# Altium footprint library OKmePCBLibrary.PcbLib: 194 footprints (part 1 of 13)
Each footprint in its own frame and in the unit in brackets; x right, y up, seen from the top. Pads: shape width x height; smd on the part's side, far side on the other; paste and mask are expansions set on the pad; w line width, h text height; cw(c..) or ccw(c..) is an arc to the next point about the centre after c.
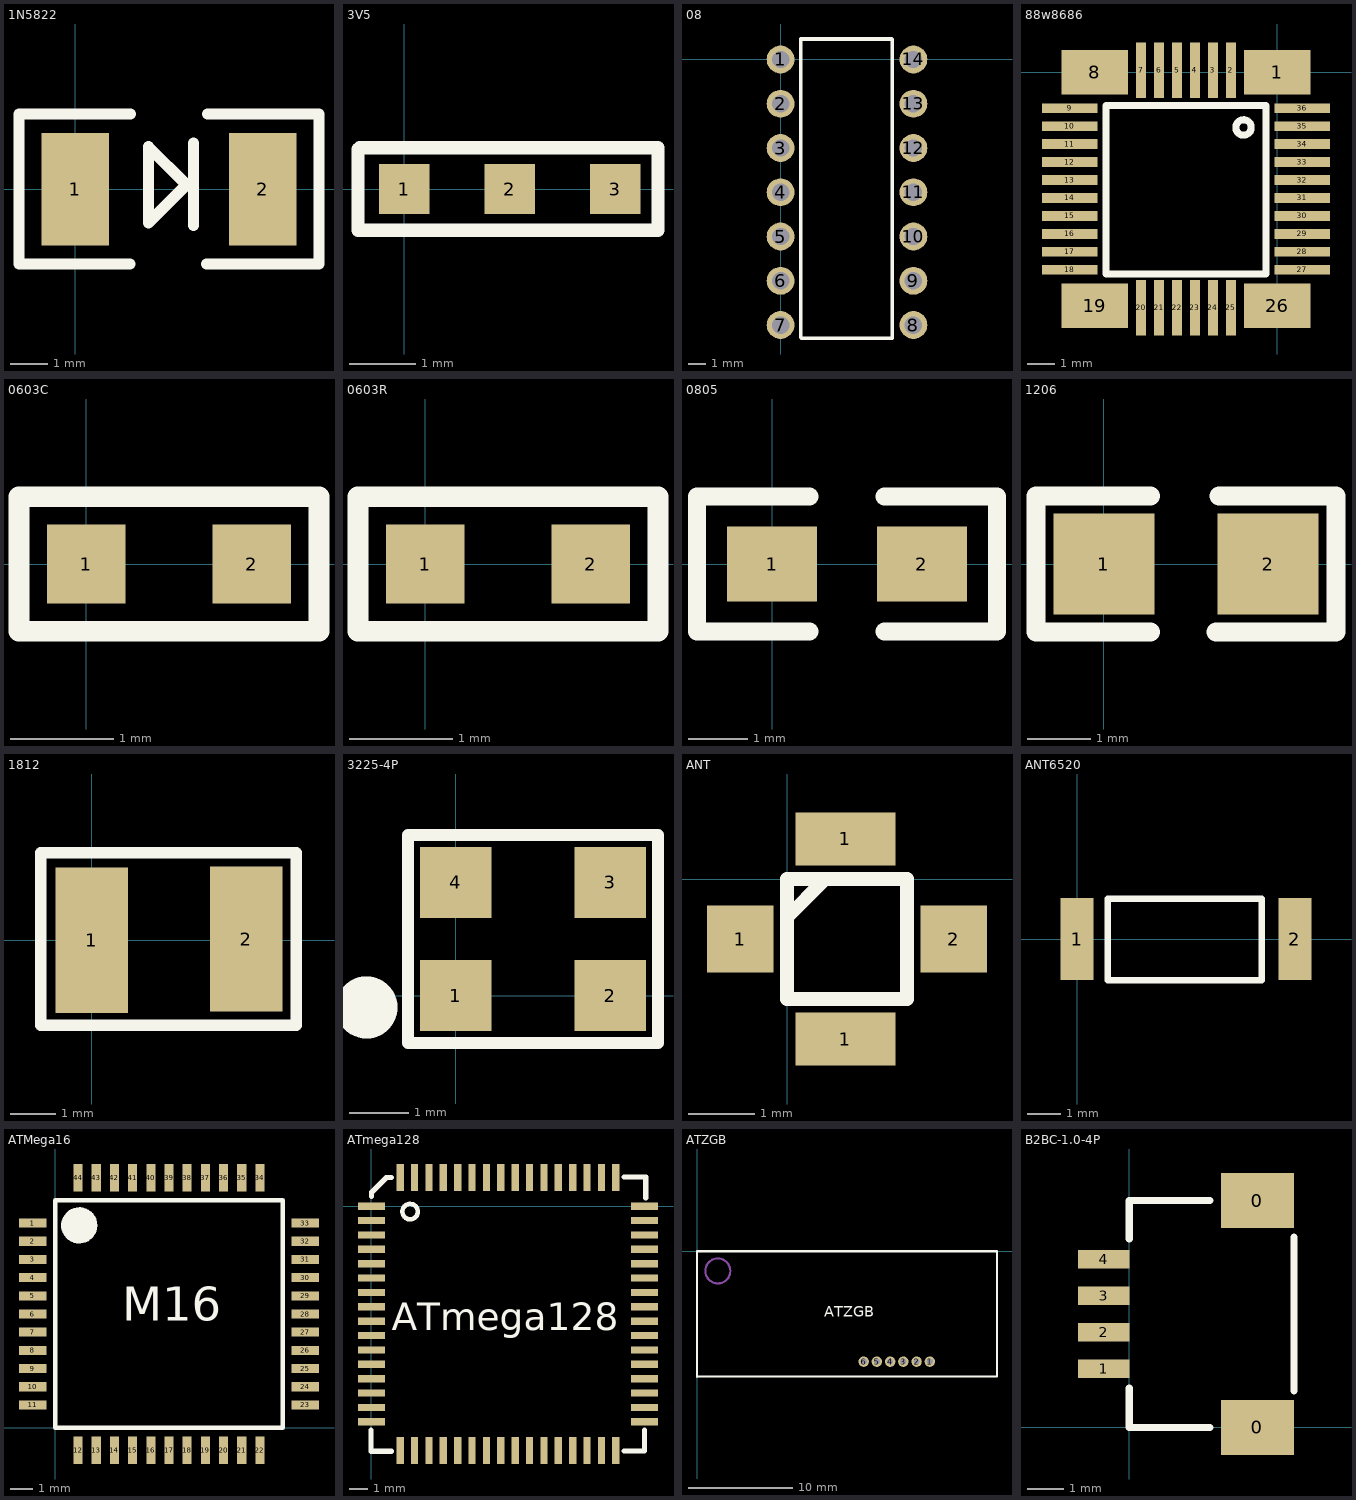
[diagram p0: the footprints below, top view; thin cyan lines are the x and y axes]

## 1N5822 [mm]
pads (2):
  rect 1.8x3 smd: 1(0,0) 2(5,0)
Top Overlay:
  lines w0.254: -1.5,2 -0.5,2
  lines w0.3: -0.5,2 1.475,2 ; 0.488,2 -1.5,2 -1.5,-2 -0.5,-2 1.45,-2 ; 3.15,-0.975 3.15,1.225 ; 3.5,-2 5.525,-2 6.5,-2 6.5,2 5.5,2 3.525,2 ; 1.95,-0.9 2.963,0.113 1.95,1.125 1.95,-0.9

## 3V5 [mil]
pads (3):
  rect 30x30 smd: 1(0,0) 2(63,0) 3(126,0)
Top Overlay:
  lines w8: -27.56,-24.61 -27.56,23.62 -26.57,24.61 -19.68,24.61 151.57,24.61 151.57,-24.61 -27.56,-24.61

## 08 [mm]
pads (14):
  round 1.6 hole 1: 1(0,0) 2(0,-2.54) 3(0,-5.08) 4(0,-7.62) 5(0,-10.16) 6(0,-12.7) 7(0,-15.24) 8(7.62,-15.24) 9(7.62,-12.7) 10(7.62,-10.16) 11(7.62,-7.62) 12(7.62,-5.08) 13(7.62,-2.54) 14(7.62,0)
Top Overlay:
  lines w0.203: 1.15,-15.95 1.15,1.175 6.375,1.175 6.4,1.15 6.4,-16 1.2,-16 1.15,-15.95

## 88w8686 [mm]
pads (36):
  rect 2.4x1.6 smd: 1(0,0) 8(-6.6,0) 19(-6.6,-8.45) 26(0,-8.45)
  rect 0.35x2 smd: 2(-1.675,0.075) 3(-2.325,0.075) 4(-2.975,0.075) 5(-3.625,0.075) 6(-4.275,0.075) 7(-4.925,0.075) 20(-4.925,-8.525) 21(-4.275,-8.525) 22(-3.625,-8.525) 23(-2.975,-8.525) 24(-2.325,-8.525) 25(-1.675,-8.525)
  rect 2x0.35 smd: 9(-7.5,-1.3) 10(-7.5,-1.95) 11(-7.5,-2.6) 12(-7.5,-3.25) 13(-7.5,-3.9) 14(-7.5,-4.55) 15(-7.5,-5.2) 16(-7.5,-5.85) 17(-7.5,-6.5) 18(-7.5,-7.15) 27(0.9,-7.15) 28(0.9,-6.5) 29(0.9,-5.85) 30(0.9,-5.2) 31(0.9,-4.55) 32(0.9,-3.9) 33(0.9,-3.25) 34(0.9,-2.6) 35(0.9,-1.95) 36(0.9,-1.3)
Top Overlay:
  circle w0.254: c-1.22,-2 r0.28
  lines w0.254: -6.2,-7.3 -0.4,-7.3 -0.4,-1.2 -6.2,-1.2 -6.2,-7.3

## 0603C [mil]
pads (2):
  rect 30x30 smd: 1(0,0) 2(62.99,0)
Top Overlay:
  lines w7.87: -25.59,-25.59 -25.59,25.59 88.58,25.59 88.58,-25.59 -25.59,-25.59

## 0603R [mil]
pads (2):
  rect 30x30 smd: 1(0,0) 2(62.99,0)
Top Overlay:
  lines w7.87: -25.59,-25.59 88.58,-25.59 88.58,25.59 -25.59,25.59 -25.59,-25.59

## 0805 [mil]
pads (2):
  rect 60x50 smd: 1(0,0) 2(100,0)
Top Overlay:
  lines w12: 25,-45 -50,-45 -50,45 25,45 ; 75,-45 150,-45 150,45 75,45

## 1206 [mm]
pads (2):
  rect 1.6x1.6 smd: 1(0,0) 2(2.6,0)
Top Overlay:
  lines w0.305: 0.735,-1.075 -1.075,-1.075 -1.075,1.075 0.735,1.075 ; 1.775,-1.075 3.675,-1.075 3.675,1.075 1.825,1.075

## 1812 [mm]
pads (2):
  rect 1.6x3.2 smd: 1(0,0) 2(3.4,0.025)
Top Overlay:
  lines w0.25: -1.125,-1.875 4.5,-1.875 4.5,1.925 -1.125,1.925 -1.125,-1.875

## 3225-4P [mm]
pads (4):
  rect 1.2x1.2 smd: 1(0,0) 2(2.6,0) 3(2.6,1.9) 4(0,1.9)
Top Overlay:
  circle w0.762: c-1.5,-0.2 r0.141
  lines w0.2: -0.8,-0.8 3.4,-0.8 3.4,2.7 -0.8,2.7 -0.8,-0.8

## ANT [mm]
pads (4):
  rect 1x1 smd: 1(-0.7,-0.9) 2(2.5,-0.9)
  rect 1.5x0.8 smd: 1(0.875,-2.4) 1(0.875,0.6)
Top Overlay:
  lines w0.203: 0.025,-0.55 0.537,-0.038 ; 0,-1.8 0,0 1.8,0 1.8,-1.8 0,-1.8

## ANT6520 [mm]
pads (2):
  rect 1x2.5 smd: 1(0,0) 2(6.6,0)
Top Overlay:
  lines w0.2: 0.925,-1.25 0.925,1.225 5.6,1.225 5.6,-1.25 0.925,-1.25

## ATMega16 [mm]
pads (44):
  rect 1.2x0.4 smd: 1(-1,9) 2(-1,8.2) 3(-1,7.4) 4(-1,6.6) 5(-1,5.8) 6(-1,5) 7(-1,4.2) 8(-1,3.4) 9(-1,2.6) 10(-1,1.8) 11(-1,1) 23(11,1) 24(11,1.8) 25(11,2.6) 26(11,3.4) 27(11,4.2) 28(11,5) 29(11,5.8) 30(11,6.6) 31(11,7.4) 32(11,8.2) 33(11,9)
  rect 0.4x1.2 smd: 12(1,-1) 13(1.8,-1) 14(2.6,-1) 15(3.4,-1) 16(4.2,-1) 17(5,-1) 18(5.8,-1) 19(6.6,-1) 20(7.4,-1) 21(8.2,-1) 22(9,-1) 34(9,11) 35(8.2,11) 36(7.4,11) 37(6.6,11) 38(5.8,11) 39(5,11) 40(4.2,11) 41(3.4,11) 42(2.6,11) 43(1.8,11) 44(1,11)
Top Overlay:
  circle w0.254: c1.053,8.9 r0.672
  rectangle: 1.25,9.281 1.481,9.406
  region: 0.95,9.6 1.2,9.35 1.55,9.35 1.55,9.075 1.725,8.9 1.6,8.775 1.6,8.5 1.4,8.3 0.725,8.3 0.475,8.55 0.475,9.225 0.45,9.25 0.8,9.6
  region: 0.95,9.6 1.2,9.35 1.412,9.35 1.55,9.212
  region: 0.95,9.6 1.2,9.35 1.55,9.35 1.637,9.262 1.637,8.988
  lines w0.203: 0,0 0,10 10,10 10,0 0,0
  text "M16" at 2.95,4.7 h1.5

## ATmega128 [mm]
pads (64):
  rect 1.5x0.4 smd: 1(0,0) 2(0,-0.8) 3(0,-1.6) 4(0,-2.4) 5(0,-3.2) 6(0,-4) 7(0,-4.8) 8(0,-5.6) 9(0,-6.4) 10(0,-7.2) 11(0,-8) 12(0,-8.8) 13(0,-9.6) 14(0,-10.4) 15(0,-11.2) 16(0,-12) 33(15.2,-12) 34(15.2,-11.2) 35(15.2,-10.4) 36(15.2,-9.6) 37(15.2,-8.8) 38(15.2,-8) 39(15.2,-7.2) 40(15.2,-6.4) 41(15.2,-5.6) 42(15.2,-4.8) 43(15.2,-4) 44(15.2,-3.2) 45(15.2,-2.4) 46(15.2,-1.6) 47(15.2,-0.8) 48(15.2,0)
  rect 0.4x1.5 smd: 17(1.6,-13.6) 18(2.4,-13.6) 19(3.2,-13.6) 20(4,-13.6) 21(4.8,-13.6) 22(5.6,-13.6) 23(6.4,-13.6) 24(7.2,-13.6) 25(8,-13.6) 26(8.8,-13.6) 27(9.6,-13.6) 28(10.4,-13.6) 29(11.2,-13.6) 30(12,-13.6) 31(12.8,-13.6) 32(13.6,-13.6) 49(13.6,1.6) 50(12.8,1.6) 51(12,1.6) 52(11.2,1.6) 53(10.4,1.6) 54(9.6,1.6) 55(8.8,1.6) 56(8,1.6) 57(7.2,1.6) 58(6.4,1.6) 59(5.6,1.6) 60(4.8,1.6) 61(4,1.6) 62(3.2,1.6) 63(2.4,1.6) 64(1.6,1.6)
Top Overlay:
  circle w0.254: c2.15,-0.3 r0.43
  lines w0.3: -0.025,-12.475 -0.025,-13.65 1.1,-13.65 ; 0,0.55 0,0.775 0.825,1.6 1.1,1.6 ; 14.075,-13.625 15.2,-13.625 15.2,-12.475 ; 14.075,1.625 15.275,1.625 ; 15.275,0.475 15.275,1.625 ; 15.275,1.625 15.275,1.625
  text "ATmega128" at 1.125,-6.9 h1.52

## ATZGB [mm]
pads (6):
  round 1 hole 0.6: 1(22.35,-10.595) 2(21.08,-10.595) 3(19.81,-10.595) 4(18.54,-10.595) 5(17.27,-10.595) 6(16,-10.595)
Top Overlay:
  lines w0.203: 0,-12.05 0,0 28.8,0 28.8,-12.025 0.025,-12.025 0,-12.05
  text "ATZGB" at 12.225,-6.3 h1.02
Mechanical 1:
  circle w0.203: c2,-1.89 r1.2

## B2BC-1.0-4P [mm]
pads (6):
  rect 2x1.5 smd: 0(3.5,0) 0(3.5,6.2)
  rect 1.4x0.5 smd: 1(-0.7,1.6) 2(-0.7,2.6) 3(-0.7,3.6) 4(-0.7,4.6)
Top Overlay:
  lines w0.2: 0,0 2.2,0 ; 0,0.025 0,1.075 ; 0,5.15 0,6.2 2.2,6.2 ; 4.5,1 4.5,5.2